# Altium schematic symbol library 2021-03-04_21-34-13.SchLib: 2 symbols
Pins are listed as number, name and electrical type; pins without a type are passive.

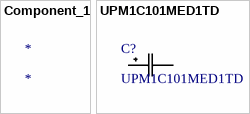
[diagram p0: symbols Component_1 to UPM1C101MED1TD]

## Component_1
designator *

## UPM1C101MED1TD
designator C?
No Description Available; Vendor: Nichicon; Built_By: EMA_Cory; SourceLibrary: Nichicon_2019-09-13; Type: DEV; Manufacturer_Part_Number: UPM1C101MED1TD; Copyright: Copyright (C) 2018 Accelerated Designs. All rights reserved; RefDes: RefDes
footprint CAP_UEP_6P3X11_NCH
pins: 1, 2